# Altium integrated library Linear Technology Power Management System Supervisor, Monitor and Control.IntLib: 1611 symbols (part 60 of 100)
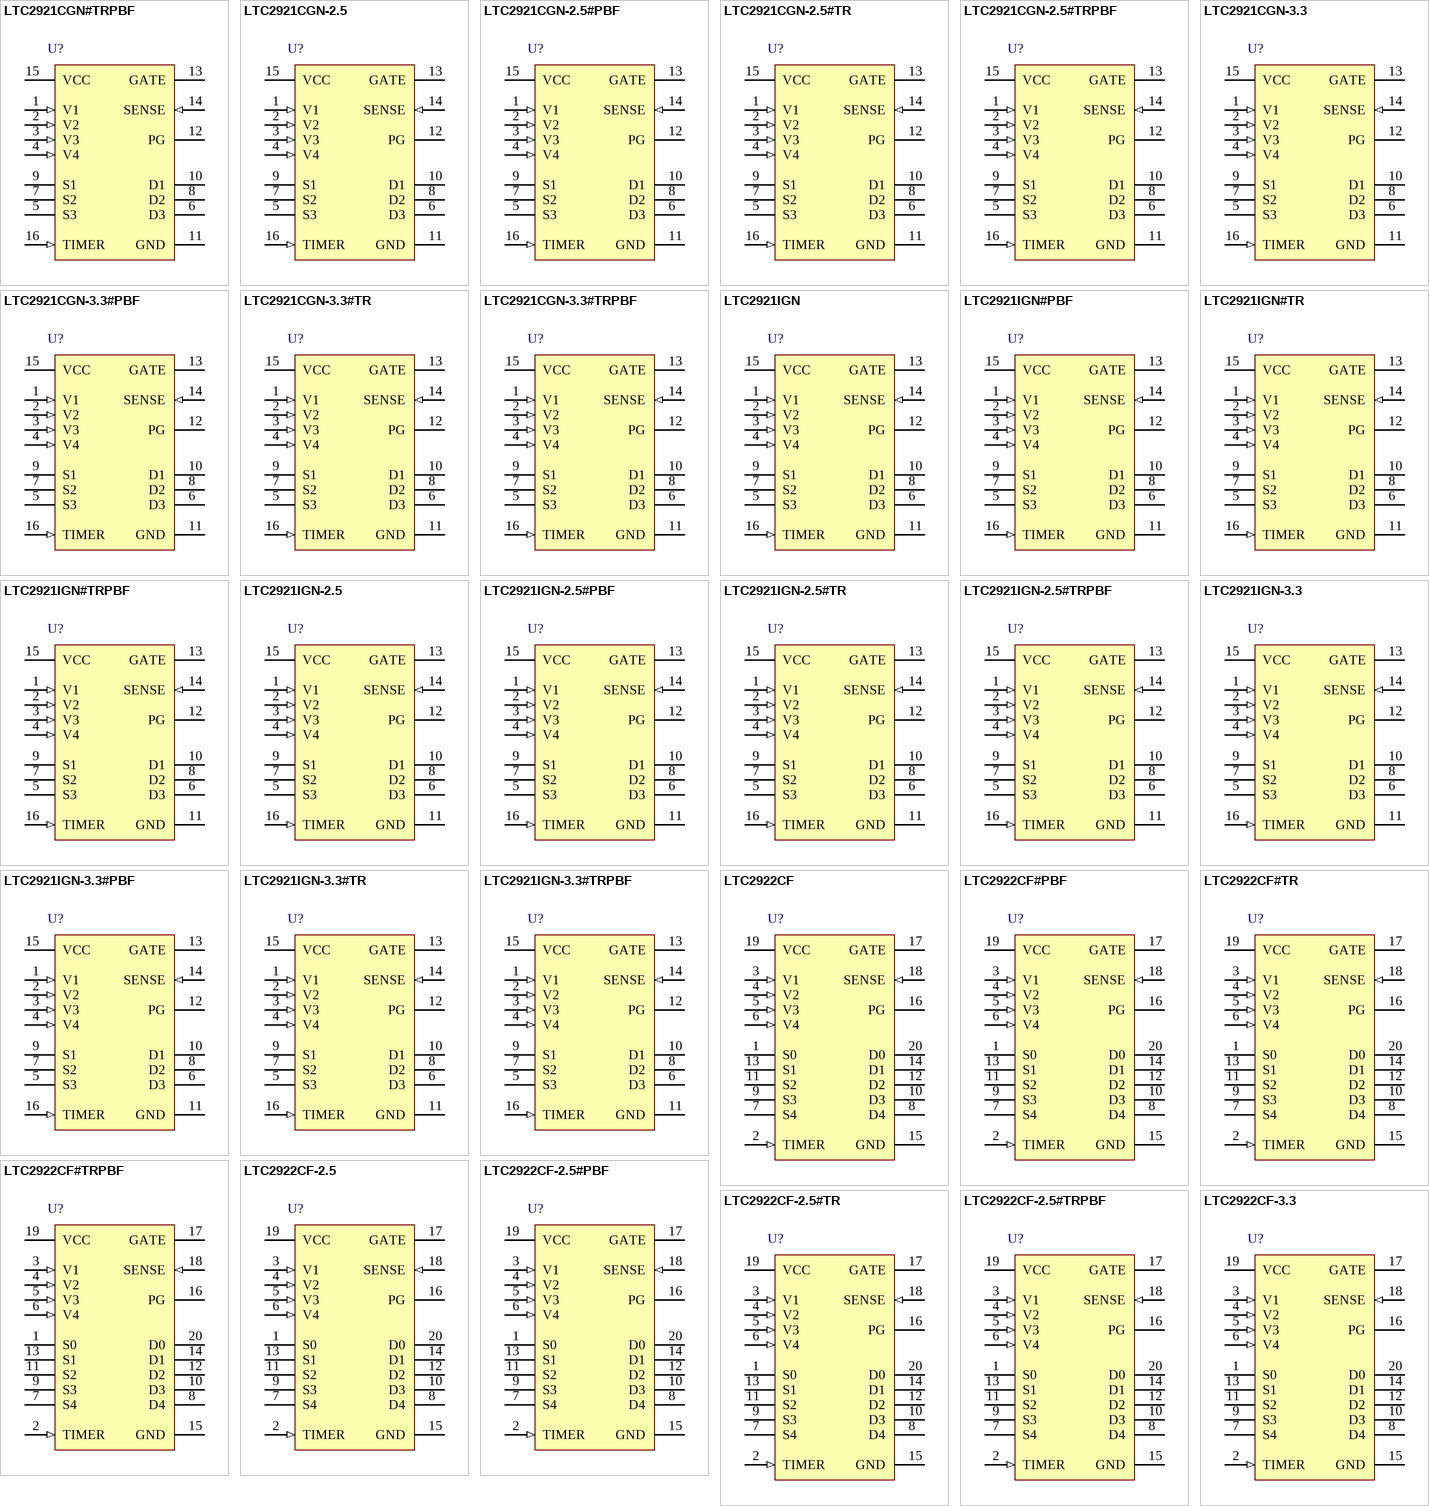
[diagram p104: symbols LTC2921CGN#TRPBF to LTC2922CF-3.3]

## LTC2922CF-2.5
designator U?
Power Supply Tracker with Input Monitor, 20-pin SOP (F-20), 0 to 70 degC; Manufacturer: Linear Technology; PartNumber: LTC2922CF-2.5; Number of Supplies(#): 5; DatasheetVersion: Rev. A; PackageVersion: Jun-10; PackageReference: F-20; PackageDescription: 20-Pin Plastic TSSOP, Body 6.5 x 4.4 mm, Pitch 0.65 mm; Supplier 1: Digi-Key; Supplier Part Number 1: LTC2922CF-2.5-ND; RoHS: FALSE; Mounting Technology: Surface Mount; ComponentLink1Description: Manufacturer URL; ComponentLink1URL: http://www.linear.com/; ComponentLink2Description: Datasheet; ComponentLink2URL: http://cds.linear.com/docs/en/datasheet/29212fa.pdf; ComponentLink3Description: Package Specification; ComponentLink3URL: http://cds.linear.com/docs/en/packaging/TSSOP_20_05-08-1650.pdf
footprint LT-F-20_N (SOP, 20-Leads, Body 6.6x4.5mm, Pitch 0.65mm, IPC Medium Density)
footprint LT-F-20_L (SOP, 20-Leads, Body 6.6x4.5mm, Pitch 0.65mm, IPC High Density)
footprint LT-F-20_M (SOP, 20-Leads, Body 6.6x4.5mm, Pitch 0.65mm, IPC Low Density)
pins: 1 S0 "Remote Switch 0. These pins are the terminals of an internal N-channel FET switch that is enabled after the GATE pin is fully ramped up. This switch can be used to connect a remote sense line to compensate for IR drop across (See Datasheet)", 2 TIMER (in) "Timing Delay Input. Connect a capacitor between this pin and ground to set a 600ms/mF delay at two points in the monitoring sequence. This sets the delay after all monitors are good, before the start of GATE ramping, and the (See Datasheet)", 3 V1 (in) "Supply Monitor Inputs. All four inputs must lie above the monitor threshold level (0.5V) and below the monitor overvoltage level (0.7V) for a turnon sequence to commence or continue. When any monitor input falls outside (See Datasheet)", 4 V2 (in) "Supply Monitor Inputs. All four inputs must lie above the monitor threshold level (0.5V) and below the monitor overvoltage level (0.7V) for a turnon sequence to commence or continue. When any monitor input falls outside (See Datasheet)", 5 V3 (in) "Supply Monitor Inputs. All four inputs must lie above the monitor threshold level (0.5V) and below the monitor overvoltage level (0.7V) for a turnon sequence to commence or continue. When any monitor input falls outside (See Datasheet)", 6 V4 (in) "Supply Monitor Inputs. All four inputs must lie above the monitor threshold level (0.5V) and below the monitor overvoltage level (0.7V) for a turnon sequence to commence or continue. When any monitor input falls outside (See Datasheet)", 7 S4 "Remote Sense Switch 4. Tie to GND if unused.", 8 D4 "Remote Sense Switch 4. Tie to GND if unused.", 9 S3 "Remote Sense Switch 3. Tie to GND if unused.", 10 D3 "Remote Sense Switch 3. Tie to GND if unused.", 11 S2 "Remote Sense Switch 2. Tie to GND if unused.", 12 D2 "Remote Sense Switch 2. Tie to GND if unused.", 13 S1 "Remote Sense Switch 1. Tie to GND if unused.", 14 D1 "Remote Sense Switch 1. Tie to GND if unused.", 15 GND (power) "Circuit Ground.", 16 PG (oc) "Power Good Output. A 4uA current source from the internal charge pump rail (VPUMP) pulls PG up after the turn-on sequence is complete. The output is pulled to ground before turn-on is complete, when any monitor is out of (See Datasheet)", 17 GATE (oc) "Gate Drive for External N-Channel FETs. A 10uA current source from the internal charge pump rail (VPUMP) ramps the gates of the external Nchannel MOSFETs forcing all supplies to track on. The resistor and capacitor network (See Datasheet)", 18 SENSE (in) "Circuit Breaker Sense Input. An external resistor between VCC and SENSE sets the electronic circuit breaker trip current. The breaker trips when the voltage across the resistor exceeds 50mV for 1us. To disable the circuit (See Datasheet)", 19 VCC (power) "Supply Voltage. The voltage at VCC is monitored through an internal resistive divider in a manner similar to the V1-V4 inputs. An undervoltage lockout circuit disables the part until the voltage at VCC is greater than 2.2V. (See Datasheet)", 20 D0 "Remote Switch 0. These pins are the terminals of an internal N-channel FET switch that is enabled after the GATE pin is fully ramped up. This switch can be used to connect a remote sense line to compensate for IR drop across (See Datasheet)"

## LTC2922CF-2.5#PBF
designator U?
Power Supply Tracker with Input Monitor, 20-pin SOP (F-20), 0 to 70 degC, Pb-Free; Manufacturer: Linear Technology; PartNumber: LTC2922CF-2.5#PBF; Number of Supplies(#): 5; DatasheetVersion: Rev. A; PackageVersion: Jun-10; PackageReference: F-20; PackageDescription: 20-Pin Plastic TSSOP, Body 6.5 x 4.4 mm, Pitch 0.65 mm; Supplier 1: Digi-Key; Supplier Part Number 1: LTC2922CF-2.5#PBF-ND; RoHS: TRUE; Mounting Technology: Surface Mount; ComponentLink1Description: Manufacturer URL; ComponentLink1URL: http://www.linear.com/; ComponentLink2Description: Datasheet; ComponentLink2URL: http://cds.linear.com/docs/en/datasheet/29212fa.pdf; ComponentLink3Description: Package Specification; ComponentLink3URL: http://cds.linear.com/docs/en/packaging/TSSOP_20_05-08-1650.pdf
footprint LT-F-20_N (SOP, 20-Leads, Body 6.6x4.5mm, Pitch 0.65mm, IPC Medium Density)
footprint LT-F-20_L (SOP, 20-Leads, Body 6.6x4.5mm, Pitch 0.65mm, IPC High Density)
footprint LT-F-20_M (SOP, 20-Leads, Body 6.6x4.5mm, Pitch 0.65mm, IPC Low Density)
pins: 1 S0 "Remote Switch 0. These pins are the terminals of an internal N-channel FET switch that is enabled after the GATE pin is fully ramped up. This switch can be used to connect a remote sense line to compensate for IR drop across (See Datasheet)", 2 TIMER (in) "Timing Delay Input. Connect a capacitor between this pin and ground to set a 600ms/mF delay at two points in the monitoring sequence. This sets the delay after all monitors are good, before the start of GATE ramping, and the (See Datasheet)", 3 V1 (in) "Supply Monitor Inputs. All four inputs must lie above the monitor threshold level (0.5V) and below the monitor overvoltage level (0.7V) for a turnon sequence to commence or continue. When any monitor input falls outside (See Datasheet)", 4 V2 (in) "Supply Monitor Inputs. All four inputs must lie above the monitor threshold level (0.5V) and below the monitor overvoltage level (0.7V) for a turnon sequence to commence or continue. When any monitor input falls outside (See Datasheet)", 5 V3 (in) "Supply Monitor Inputs. All four inputs must lie above the monitor threshold level (0.5V) and below the monitor overvoltage level (0.7V) for a turnon sequence to commence or continue. When any monitor input falls outside (See Datasheet)", 6 V4 (in) "Supply Monitor Inputs. All four inputs must lie above the monitor threshold level (0.5V) and below the monitor overvoltage level (0.7V) for a turnon sequence to commence or continue. When any monitor input falls outside (See Datasheet)", 7 S4 "Remote Sense Switch 4. Tie to GND if unused.", 8 D4 "Remote Sense Switch 4. Tie to GND if unused.", 9 S3 "Remote Sense Switch 3. Tie to GND if unused.", 10 D3 "Remote Sense Switch 3. Tie to GND if unused.", 11 S2 "Remote Sense Switch 2. Tie to GND if unused.", 12 D2 "Remote Sense Switch 2. Tie to GND if unused.", 13 S1 "Remote Sense Switch 1. Tie to GND if unused.", 14 D1 "Remote Sense Switch 1. Tie to GND if unused.", 15 GND (power) "Circuit Ground.", 16 PG (oc) "Power Good Output. A 4uA current source from the internal charge pump rail (VPUMP) pulls PG up after the turn-on sequence is complete. The output is pulled to ground before turn-on is complete, when any monitor is out of (See Datasheet)", 17 GATE (oc) "Gate Drive for External N-Channel FETs. A 10uA current source from the internal charge pump rail (VPUMP) ramps the gates of the external Nchannel MOSFETs forcing all supplies to track on. The resistor and capacitor network (See Datasheet)", 18 SENSE (in) "Circuit Breaker Sense Input. An external resistor between VCC and SENSE sets the electronic circuit breaker trip current. The breaker trips when the voltage across the resistor exceeds 50mV for 1us. To disable the circuit (See Datasheet)", 19 VCC (power) "Supply Voltage. The voltage at VCC is monitored through an internal resistive divider in a manner similar to the V1-V4 inputs. An undervoltage lockout circuit disables the part until the voltage at VCC is greater than 2.2V. (See Datasheet)", 20 D0 "Remote Switch 0. These pins are the terminals of an internal N-channel FET switch that is enabled after the GATE pin is fully ramped up. This switch can be used to connect a remote sense line to compensate for IR drop across (See Datasheet)"

## LTC2922CF-2.5#TR
designator U?
Power Supply Tracker with Input Monitor, 20-pin SOP (F-20), 0 to 70 degC, Tape and Reel; Manufacturer: Linear Technology; PartNumber: LTC2922CF-2.5#TR; Number of Supplies(#): 5; DatasheetVersion: Rev. A; PackageVersion: Jun-10; PackageReference: F-20; PackageDescription: 20-Pin Plastic TSSOP, Body 6.5 x 4.4 mm, Pitch 0.65 mm; Supplier 1: Digi-Key; Supplier Part Number 1: LTC2922CF-2.5#TR-ND; Packing: Tape and Reel; RoHS: FALSE; Mounting Technology: Surface Mount; ComponentLink1Description: Manufacturer URL; ComponentLink1URL: http://www.linear.com/; ComponentLink2Description: Datasheet; ComponentLink2URL: http://cds.linear.com/docs/en/datasheet/29212fa.pdf; ComponentLink3Description: Package Specification; ComponentLink3URL: http://cds.linear.com/docs/en/packaging/TSSOP_20_05-08-1650.pdf
footprint LT-F-20_N (SOP, 20-Leads, Body 6.6x4.5mm, Pitch 0.65mm, IPC Medium Density)
footprint LT-F-20_L (SOP, 20-Leads, Body 6.6x4.5mm, Pitch 0.65mm, IPC High Density)
footprint LT-F-20_M (SOP, 20-Leads, Body 6.6x4.5mm, Pitch 0.65mm, IPC Low Density)
pins: 1 S0 "Remote Switch 0. These pins are the terminals of an internal N-channel FET switch that is enabled after the GATE pin is fully ramped up. This switch can be used to connect a remote sense line to compensate for IR drop across (See Datasheet)", 2 TIMER (in) "Timing Delay Input. Connect a capacitor between this pin and ground to set a 600ms/mF delay at two points in the monitoring sequence. This sets the delay after all monitors are good, before the start of GATE ramping, and the (See Datasheet)", 3 V1 (in) "Supply Monitor Inputs. All four inputs must lie above the monitor threshold level (0.5V) and below the monitor overvoltage level (0.7V) for a turnon sequence to commence or continue. When any monitor input falls outside (See Datasheet)", 4 V2 (in) "Supply Monitor Inputs. All four inputs must lie above the monitor threshold level (0.5V) and below the monitor overvoltage level (0.7V) for a turnon sequence to commence or continue. When any monitor input falls outside (See Datasheet)", 5 V3 (in) "Supply Monitor Inputs. All four inputs must lie above the monitor threshold level (0.5V) and below the monitor overvoltage level (0.7V) for a turnon sequence to commence or continue. When any monitor input falls outside (See Datasheet)", 6 V4 (in) "Supply Monitor Inputs. All four inputs must lie above the monitor threshold level (0.5V) and below the monitor overvoltage level (0.7V) for a turnon sequence to commence or continue. When any monitor input falls outside (See Datasheet)", 7 S4 "Remote Sense Switch 4. Tie to GND if unused.", 8 D4 "Remote Sense Switch 4. Tie to GND if unused.", 9 S3 "Remote Sense Switch 3. Tie to GND if unused.", 10 D3 "Remote Sense Switch 3. Tie to GND if unused.", 11 S2 "Remote Sense Switch 2. Tie to GND if unused.", 12 D2 "Remote Sense Switch 2. Tie to GND if unused.", 13 S1 "Remote Sense Switch 1. Tie to GND if unused.", 14 D1 "Remote Sense Switch 1. Tie to GND if unused.", 15 GND (power) "Circuit Ground.", 16 PG (oc) "Power Good Output. A 4uA current source from the internal charge pump rail (VPUMP) pulls PG up after the turn-on sequence is complete. The output is pulled to ground before turn-on is complete, when any monitor is out of (See Datasheet)", 17 GATE (oc) "Gate Drive for External N-Channel FETs. A 10uA current source from the internal charge pump rail (VPUMP) ramps the gates of the external Nchannel MOSFETs forcing all supplies to track on. The resistor and capacitor network (See Datasheet)", 18 SENSE (in) "Circuit Breaker Sense Input. An external resistor between VCC and SENSE sets the electronic circuit breaker trip current. The breaker trips when the voltage across the resistor exceeds 50mV for 1us. To disable the circuit (See Datasheet)", 19 VCC (power) "Supply Voltage. The voltage at VCC is monitored through an internal resistive divider in a manner similar to the V1-V4 inputs. An undervoltage lockout circuit disables the part until the voltage at VCC is greater than 2.2V. (See Datasheet)", 20 D0 "Remote Switch 0. These pins are the terminals of an internal N-channel FET switch that is enabled after the GATE pin is fully ramped up. This switch can be used to connect a remote sense line to compensate for IR drop across (See Datasheet)"

## LTC2922CF-2.5#TRPBF
designator U?
Power Supply Tracker with Input Monitor, 20-pin SOP (F-20), 0 to 70 degC, Pb-Free, Tape and Reel; Manufacturer: Linear Technology; PartNumber: LTC2922CF-2.5#TRPBF; Number of Supplies(#): 5; DatasheetVersion: Rev. A; PackageVersion: Jun-10; PackageReference: F-20; PackageDescription: 20-Pin Plastic TSSOP, Body 6.5 x 4.4 mm, Pitch 0.65 mm; Supplier 1: Digi-Key; Supplier Part Number 1: LTC2922CF-2.5#TRPBF-ND; Packing: Tape and Reel; RoHS: TRUE; Mounting Technology: Surface Mount; ComponentLink1Description: Manufacturer URL; ComponentLink1URL: http://www.linear.com/; ComponentLink2Description: Datasheet; ComponentLink2URL: http://cds.linear.com/docs/en/datasheet/29212fa.pdf; ComponentLink3Description: Package Specification; ComponentLink3URL: http://cds.linear.com/docs/en/packaging/TSSOP_20_05-08-1650.pdf
footprint LT-F-20_N (SOP, 20-Leads, Body 6.6x4.5mm, Pitch 0.65mm, IPC Medium Density)
footprint LT-F-20_L (SOP, 20-Leads, Body 6.6x4.5mm, Pitch 0.65mm, IPC High Density)
footprint LT-F-20_M (SOP, 20-Leads, Body 6.6x4.5mm, Pitch 0.65mm, IPC Low Density)
pins: 1 S0 "Remote Switch 0. These pins are the terminals of an internal N-channel FET switch that is enabled after the GATE pin is fully ramped up. This switch can be used to connect a remote sense line to compensate for IR drop across (See Datasheet)", 2 TIMER (in) "Timing Delay Input. Connect a capacitor between this pin and ground to set a 600ms/mF delay at two points in the monitoring sequence. This sets the delay after all monitors are good, before the start of GATE ramping, and the (See Datasheet)", 3 V1 (in) "Supply Monitor Inputs. All four inputs must lie above the monitor threshold level (0.5V) and below the monitor overvoltage level (0.7V) for a turnon sequence to commence or continue. When any monitor input falls outside (See Datasheet)", 4 V2 (in) "Supply Monitor Inputs. All four inputs must lie above the monitor threshold level (0.5V) and below the monitor overvoltage level (0.7V) for a turnon sequence to commence or continue. When any monitor input falls outside (See Datasheet)", 5 V3 (in) "Supply Monitor Inputs. All four inputs must lie above the monitor threshold level (0.5V) and below the monitor overvoltage level (0.7V) for a turnon sequence to commence or continue. When any monitor input falls outside (See Datasheet)", 6 V4 (in) "Supply Monitor Inputs. All four inputs must lie above the monitor threshold level (0.5V) and below the monitor overvoltage level (0.7V) for a turnon sequence to commence or continue. When any monitor input falls outside (See Datasheet)", 7 S4 "Remote Sense Switch 4. Tie to GND if unused.", 8 D4 "Remote Sense Switch 4. Tie to GND if unused.", 9 S3 "Remote Sense Switch 3. Tie to GND if unused.", 10 D3 "Remote Sense Switch 3. Tie to GND if unused.", 11 S2 "Remote Sense Switch 2. Tie to GND if unused.", 12 D2 "Remote Sense Switch 2. Tie to GND if unused.", 13 S1 "Remote Sense Switch 1. Tie to GND if unused.", 14 D1 "Remote Sense Switch 1. Tie to GND if unused.", 15 GND (power) "Circuit Ground.", 16 PG (oc) "Power Good Output. A 4uA current source from the internal charge pump rail (VPUMP) pulls PG up after the turn-on sequence is complete. The output is pulled to ground before turn-on is complete, when any monitor is out of (See Datasheet)", 17 GATE (oc) "Gate Drive for External N-Channel FETs. A 10uA current source from the internal charge pump rail (VPUMP) ramps the gates of the external Nchannel MOSFETs forcing all supplies to track on. The resistor and capacitor network (See Datasheet)", 18 SENSE (in) "Circuit Breaker Sense Input. An external resistor between VCC and SENSE sets the electronic circuit breaker trip current. The breaker trips when the voltage across the resistor exceeds 50mV for 1us. To disable the circuit (See Datasheet)", 19 VCC (power) "Supply Voltage. The voltage at VCC is monitored through an internal resistive divider in a manner similar to the V1-V4 inputs. An undervoltage lockout circuit disables the part until the voltage at VCC is greater than 2.2V. (See Datasheet)", 20 D0 "Remote Switch 0. These pins are the terminals of an internal N-channel FET switch that is enabled after the GATE pin is fully ramped up. This switch can be used to connect a remote sense line to compensate for IR drop across (See Datasheet)"

## LTC2922CF-3.3
designator U?
Power Supply Tracker with Input Monitor, 20-pin SOP (F-20), 0 to 70 degC; Manufacturer: Linear Technology; PartNumber: LTC2922CF-3.3; Number of Supplies(#): 5; DatasheetVersion: Rev. A; PackageVersion: Jun-10; PackageReference: F-20; PackageDescription: 20-Pin Plastic TSSOP, Body 6.5 x 4.4 mm, Pitch 0.65 mm; Supplier 1: Digi-Key; Supplier Part Number 1: LTC2922CF-3.3-ND; RoHS: FALSE; Mounting Technology: Surface Mount; ComponentLink1Description: Manufacturer URL; ComponentLink1URL: http://www.linear.com/; ComponentLink2Description: Datasheet; ComponentLink2URL: http://cds.linear.com/docs/en/datasheet/29212fa.pdf; ComponentLink3Description: Package Specification; ComponentLink3URL: http://cds.linear.com/docs/en/packaging/TSSOP_20_05-08-1650.pdf
footprint LT-F-20_N (SOP, 20-Leads, Body 6.6x4.5mm, Pitch 0.65mm, IPC Medium Density)
footprint LT-F-20_L (SOP, 20-Leads, Body 6.6x4.5mm, Pitch 0.65mm, IPC High Density)
footprint LT-F-20_M (SOP, 20-Leads, Body 6.6x4.5mm, Pitch 0.65mm, IPC Low Density)
pins: 1 S0 "Remote Switch 0. These pins are the terminals of an internal N-channel FET switch that is enabled after the GATE pin is fully ramped up. This switch can be used to connect a remote sense line to compensate for IR drop across (See Datasheet)", 2 TIMER (in) "Timing Delay Input. Connect a capacitor between this pin and ground to set a 600ms/mF delay at two points in the monitoring sequence. This sets the delay after all monitors are good, before the start of GATE ramping, and the (See Datasheet)", 3 V1 (in) "Supply Monitor Inputs. All four inputs must lie above the monitor threshold level (0.5V) and below the monitor overvoltage level (0.7V) for a turnon sequence to commence or continue. When any monitor input falls outside (See Datasheet)", 4 V2 (in) "Supply Monitor Inputs. All four inputs must lie above the monitor threshold level (0.5V) and below the monitor overvoltage level (0.7V) for a turnon sequence to commence or continue. When any monitor input falls outside (See Datasheet)", 5 V3 (in) "Supply Monitor Inputs. All four inputs must lie above the monitor threshold level (0.5V) and below the monitor overvoltage level (0.7V) for a turnon sequence to commence or continue. When any monitor input falls outside (See Datasheet)", 6 V4 (in) "Supply Monitor Inputs. All four inputs must lie above the monitor threshold level (0.5V) and below the monitor overvoltage level (0.7V) for a turnon sequence to commence or continue. When any monitor input falls outside (See Datasheet)", 7 S4 "Remote Sense Switch 4. Tie to GND if unused.", 8 D4 "Remote Sense Switch 4. Tie to GND if unused.", 9 S3 "Remote Sense Switch 3. Tie to GND if unused.", 10 D3 "Remote Sense Switch 3. Tie to GND if unused.", 11 S2 "Remote Sense Switch 2. Tie to GND if unused.", 12 D2 "Remote Sense Switch 2. Tie to GND if unused.", 13 S1 "Remote Sense Switch 1. Tie to GND if unused.", 14 D1 "Remote Sense Switch 1. Tie to GND if unused.", 15 GND (power) "Circuit Ground.", 16 PG (oc) "Power Good Output. A 4uA current source from the internal charge pump rail (VPUMP) pulls PG up after the turn-on sequence is complete. The output is pulled to ground before turn-on is complete, when any monitor is out of (See Datasheet)", 17 GATE (oc) "Gate Drive for External N-Channel FETs. A 10uA current source from the internal charge pump rail (VPUMP) ramps the gates of the external Nchannel MOSFETs forcing all supplies to track on. The resistor and capacitor network (See Datasheet)", 18 SENSE (in) "Circuit Breaker Sense Input. An external resistor between VCC and SENSE sets the electronic circuit breaker trip current. The breaker trips when the voltage across the resistor exceeds 50mV for 1us. To disable the circuit (See Datasheet)", 19 VCC (power) "Supply Voltage. The voltage at VCC is monitored through an internal resistive divider in a manner similar to the V1-V4 inputs. An undervoltage lockout circuit disables the part until the voltage at VCC is greater than 2.2V. (See Datasheet)", 20 D0 "Remote Switch 0. These pins are the terminals of an internal N-channel FET switch that is enabled after the GATE pin is fully ramped up. This switch can be used to connect a remote sense line to compensate for IR drop across (See Datasheet)"

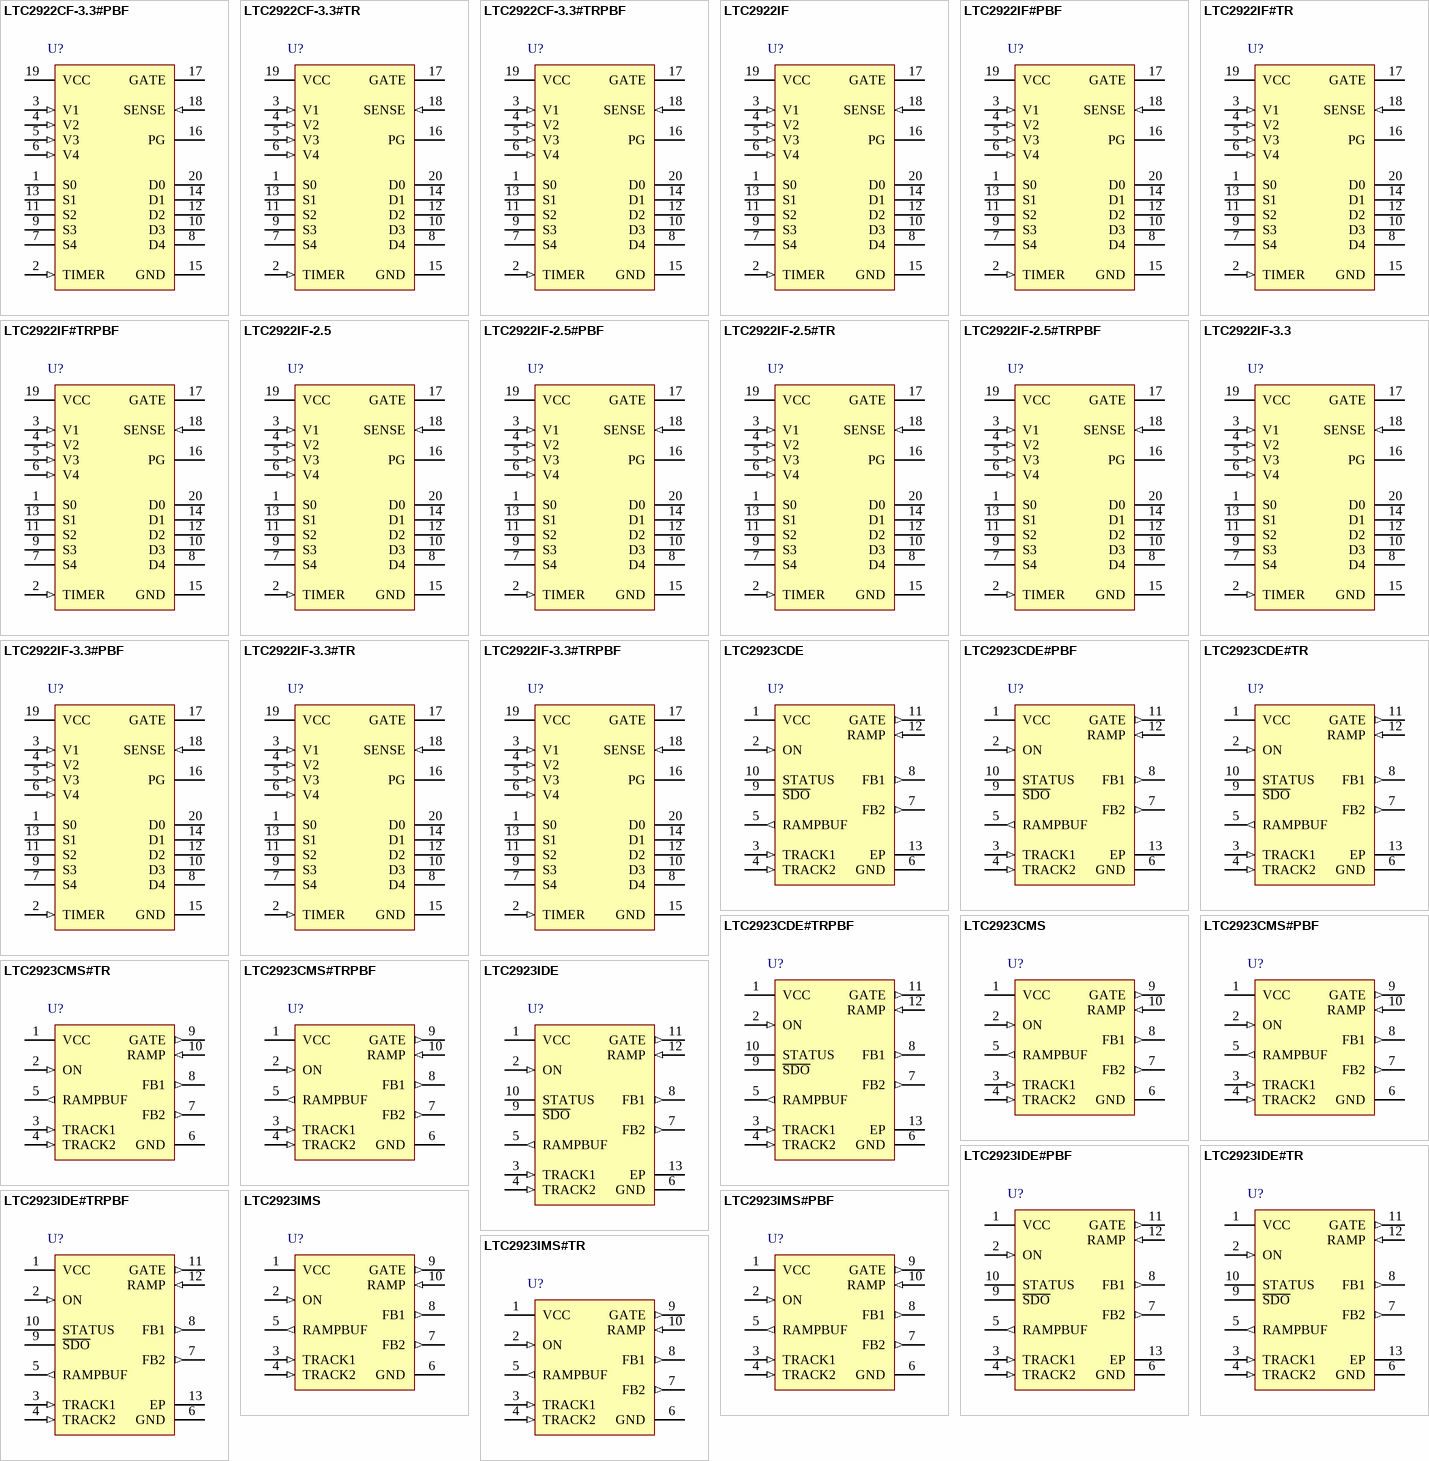
[diagram p28: symbols LTC2922CF-3.3#PBF to LTC2923IMS#TR]

## LTC2922CF-3.3#PBF
designator U?
Power Supply Tracker with Input Monitor, 20-pin SOP (F-20), 0 to 70 degC, Pb-Free; Manufacturer: Linear Technology; PartNumber: LTC2922CF-3.3#PBF; Number of Supplies(#): 5; DatasheetVersion: Rev. A; PackageVersion: Jun-10; PackageReference: F-20; PackageDescription: 20-Pin Plastic TSSOP, Body 6.5 x 4.4 mm, Pitch 0.65 mm; Supplier 1: Digi-Key; Supplier Part Number 1: LTC2922CF-3.3#PBF-ND; RoHS: TRUE; Mounting Technology: Surface Mount; ComponentLink1Description: Manufacturer URL; ComponentLink1URL: http://www.linear.com/; ComponentLink2Description: Datasheet; ComponentLink2URL: http://cds.linear.com/docs/en/datasheet/29212fa.pdf; ComponentLink3Description: Package Specification; ComponentLink3URL: http://cds.linear.com/docs/en/packaging/TSSOP_20_05-08-1650.pdf
footprint LT-F-20_N (SOP, 20-Leads, Body 6.6x4.5mm, Pitch 0.65mm, IPC Medium Density)
footprint LT-F-20_L (SOP, 20-Leads, Body 6.6x4.5mm, Pitch 0.65mm, IPC High Density)
footprint LT-F-20_M (SOP, 20-Leads, Body 6.6x4.5mm, Pitch 0.65mm, IPC Low Density)
pins: 1 S0 "Remote Switch 0. These pins are the terminals of an internal N-channel FET switch that is enabled after the GATE pin is fully ramped up. This switch can be used to connect a remote sense line to compensate for IR drop across (See Datasheet)", 2 TIMER (in) "Timing Delay Input. Connect a capacitor between this pin and ground to set a 600ms/mF delay at two points in the monitoring sequence. This sets the delay after all monitors are good, before the start of GATE ramping, and the (See Datasheet)", 3 V1 (in) "Supply Monitor Inputs. All four inputs must lie above the monitor threshold level (0.5V) and below the monitor overvoltage level (0.7V) for a turnon sequence to commence or continue. When any monitor input falls outside (See Datasheet)", 4 V2 (in) "Supply Monitor Inputs. All four inputs must lie above the monitor threshold level (0.5V) and below the monitor overvoltage level (0.7V) for a turnon sequence to commence or continue. When any monitor input falls outside (See Datasheet)", 5 V3 (in) "Supply Monitor Inputs. All four inputs must lie above the monitor threshold level (0.5V) and below the monitor overvoltage level (0.7V) for a turnon sequence to commence or continue. When any monitor input falls outside (See Datasheet)", 6 V4 (in) "Supply Monitor Inputs. All four inputs must lie above the monitor threshold level (0.5V) and below the monitor overvoltage level (0.7V) for a turnon sequence to commence or continue. When any monitor input falls outside (See Datasheet)", 7 S4 "Remote Sense Switch 4. Tie to GND if unused.", 8 D4 "Remote Sense Switch 4. Tie to GND if unused.", 9 S3 "Remote Sense Switch 3. Tie to GND if unused.", 10 D3 "Remote Sense Switch 3. Tie to GND if unused.", 11 S2 "Remote Sense Switch 2. Tie to GND if unused.", 12 D2 "Remote Sense Switch 2. Tie to GND if unused.", 13 S1 "Remote Sense Switch 1. Tie to GND if unused.", 14 D1 "Remote Sense Switch 1. Tie to GND if unused.", 15 GND (power) "Circuit Ground.", 16 PG (oc) "Power Good Output. A 4uA current source from the internal charge pump rail (VPUMP) pulls PG up after the turn-on sequence is complete. The output is pulled to ground before turn-on is complete, when any monitor is out of (See Datasheet)", 17 GATE (oc) "Gate Drive for External N-Channel FETs. A 10uA current source from the internal charge pump rail (VPUMP) ramps the gates of the external Nchannel MOSFETs forcing all supplies to track on. The resistor and capacitor network (See Datasheet)", 18 SENSE (in) "Circuit Breaker Sense Input. An external resistor between VCC and SENSE sets the electronic circuit breaker trip current. The breaker trips when the voltage across the resistor exceeds 50mV for 1us. To disable the circuit (See Datasheet)", 19 VCC (power) "Supply Voltage. The voltage at VCC is monitored through an internal resistive divider in a manner similar to the V1-V4 inputs. An undervoltage lockout circuit disables the part until the voltage at VCC is greater than 2.2V. (See Datasheet)", 20 D0 "Remote Switch 0. These pins are the terminals of an internal N-channel FET switch that is enabled after the GATE pin is fully ramped up. This switch can be used to connect a remote sense line to compensate for IR drop across (See Datasheet)"

## LTC2922CF-3.3#TR
designator U?
Power Supply Tracker with Input Monitor, 20-pin SOP (F-20), 0 to 70 degC, Tape and Reel; Manufacturer: Linear Technology; PartNumber: LTC2922CF-3.3#TR; Number of Supplies(#): 5; DatasheetVersion: Rev. A; PackageVersion: Jun-10; PackageReference: F-20; PackageDescription: 20-Pin Plastic TSSOP, Body 6.5 x 4.4 mm, Pitch 0.65 mm; Supplier 1: Digi-Key; Supplier Part Number 1: LTC2922CF-3.3#TR-ND; Packing: Tape and Reel; RoHS: FALSE; Mounting Technology: Surface Mount; ComponentLink1Description: Manufacturer URL; ComponentLink1URL: http://www.linear.com/; ComponentLink2Description: Datasheet; ComponentLink2URL: http://cds.linear.com/docs/en/datasheet/29212fa.pdf; ComponentLink3Description: Package Specification; ComponentLink3URL: http://cds.linear.com/docs/en/packaging/TSSOP_20_05-08-1650.pdf
footprint LT-F-20_N (SOP, 20-Leads, Body 6.6x4.5mm, Pitch 0.65mm, IPC Medium Density)
footprint LT-F-20_L (SOP, 20-Leads, Body 6.6x4.5mm, Pitch 0.65mm, IPC High Density)
footprint LT-F-20_M (SOP, 20-Leads, Body 6.6x4.5mm, Pitch 0.65mm, IPC Low Density)
pins: 1 S0 "Remote Switch 0. These pins are the terminals of an internal N-channel FET switch that is enabled after the GATE pin is fully ramped up. This switch can be used to connect a remote sense line to compensate for IR drop across (See Datasheet)", 2 TIMER (in) "Timing Delay Input. Connect a capacitor between this pin and ground to set a 600ms/mF delay at two points in the monitoring sequence. This sets the delay after all monitors are good, before the start of GATE ramping, and the (See Datasheet)", 3 V1 (in) "Supply Monitor Inputs. All four inputs must lie above the monitor threshold level (0.5V) and below the monitor overvoltage level (0.7V) for a turnon sequence to commence or continue. When any monitor input falls outside (See Datasheet)", 4 V2 (in) "Supply Monitor Inputs. All four inputs must lie above the monitor threshold level (0.5V) and below the monitor overvoltage level (0.7V) for a turnon sequence to commence or continue. When any monitor input falls outside (See Datasheet)", 5 V3 (in) "Supply Monitor Inputs. All four inputs must lie above the monitor threshold level (0.5V) and below the monitor overvoltage level (0.7V) for a turnon sequence to commence or continue. When any monitor input falls outside (See Datasheet)", 6 V4 (in) "Supply Monitor Inputs. All four inputs must lie above the monitor threshold level (0.5V) and below the monitor overvoltage level (0.7V) for a turnon sequence to commence or continue. When any monitor input falls outside (See Datasheet)", 7 S4 "Remote Sense Switch 4. Tie to GND if unused.", 8 D4 "Remote Sense Switch 4. Tie to GND if unused.", 9 S3 "Remote Sense Switch 3. Tie to GND if unused.", 10 D3 "Remote Sense Switch 3. Tie to GND if unused.", 11 S2 "Remote Sense Switch 2. Tie to GND if unused.", 12 D2 "Remote Sense Switch 2. Tie to GND if unused.", 13 S1 "Remote Sense Switch 1. Tie to GND if unused.", 14 D1 "Remote Sense Switch 1. Tie to GND if unused.", 15 GND (power) "Circuit Ground.", 16 PG (oc) "Power Good Output. A 4uA current source from the internal charge pump rail (VPUMP) pulls PG up after the turn-on sequence is complete. The output is pulled to ground before turn-on is complete, when any monitor is out of (See Datasheet)", 17 GATE (oc) "Gate Drive for External N-Channel FETs. A 10uA current source from the internal charge pump rail (VPUMP) ramps the gates of the external Nchannel MOSFETs forcing all supplies to track on. The resistor and capacitor network (See Datasheet)", 18 SENSE (in) "Circuit Breaker Sense Input. An external resistor between VCC and SENSE sets the electronic circuit breaker trip current. The breaker trips when the voltage across the resistor exceeds 50mV for 1us. To disable the circuit (See Datasheet)", 19 VCC (power) "Supply Voltage. The voltage at VCC is monitored through an internal resistive divider in a manner similar to the V1-V4 inputs. An undervoltage lockout circuit disables the part until the voltage at VCC is greater than 2.2V. (See Datasheet)", 20 D0 "Remote Switch 0. These pins are the terminals of an internal N-channel FET switch that is enabled after the GATE pin is fully ramped up. This switch can be used to connect a remote sense line to compensate for IR drop across (See Datasheet)"

## LTC2922CF-3.3#TRPBF
designator U?
Power Supply Tracker with Input Monitor, 20-pin SOP (F-20), 0 to 70 degC, Pb-Free, Tape and Reel; Manufacturer: Linear Technology; PartNumber: LTC2922CF-3.3#TRPBF; Number of Supplies(#): 5; DatasheetVersion: Rev. A; PackageVersion: Jun-10; PackageReference: F-20; PackageDescription: 20-Pin Plastic TSSOP, Body 6.5 x 4.4 mm, Pitch 0.65 mm; Supplier 1: Digi-Key; Supplier Part Number 1: LTC2922CF-3.3#TRPBF-ND; Packing: Tape and Reel; RoHS: TRUE; Mounting Technology: Surface Mount; ComponentLink1Description: Manufacturer URL; ComponentLink1URL: http://www.linear.com/; ComponentLink2Description: Datasheet; ComponentLink2URL: http://cds.linear.com/docs/en/datasheet/29212fa.pdf; ComponentLink3Description: Package Specification; ComponentLink3URL: http://cds.linear.com/docs/en/packaging/TSSOP_20_05-08-1650.pdf
footprint LT-F-20_N (SOP, 20-Leads, Body 6.6x4.5mm, Pitch 0.65mm, IPC Medium Density)
footprint LT-F-20_L (SOP, 20-Leads, Body 6.6x4.5mm, Pitch 0.65mm, IPC High Density)
footprint LT-F-20_M (SOP, 20-Leads, Body 6.6x4.5mm, Pitch 0.65mm, IPC Low Density)
pins: 1 S0 "Remote Switch 0. These pins are the terminals of an internal N-channel FET switch that is enabled after the GATE pin is fully ramped up. This switch can be used to connect a remote sense line to compensate for IR drop across (See Datasheet)", 2 TIMER (in) "Timing Delay Input. Connect a capacitor between this pin and ground to set a 600ms/mF delay at two points in the monitoring sequence. This sets the delay after all monitors are good, before the start of GATE ramping, and the (See Datasheet)", 3 V1 (in) "Supply Monitor Inputs. All four inputs must lie above the monitor threshold level (0.5V) and below the monitor overvoltage level (0.7V) for a turnon sequence to commence or continue. When any monitor input falls outside (See Datasheet)", 4 V2 (in) "Supply Monitor Inputs. All four inputs must lie above the monitor threshold level (0.5V) and below the monitor overvoltage level (0.7V) for a turnon sequence to commence or continue. When any monitor input falls outside (See Datasheet)", 5 V3 (in) "Supply Monitor Inputs. All four inputs must lie above the monitor threshold level (0.5V) and below the monitor overvoltage level (0.7V) for a turnon sequence to commence or continue. When any monitor input falls outside (See Datasheet)", 6 V4 (in) "Supply Monitor Inputs. All four inputs must lie above the monitor threshold level (0.5V) and below the monitor overvoltage level (0.7V) for a turnon sequence to commence or continue. When any monitor input falls outside (See Datasheet)", 7 S4 "Remote Sense Switch 4. Tie to GND if unused.", 8 D4 "Remote Sense Switch 4. Tie to GND if unused.", 9 S3 "Remote Sense Switch 3. Tie to GND if unused.", 10 D3 "Remote Sense Switch 3. Tie to GND if unused.", 11 S2 "Remote Sense Switch 2. Tie to GND if unused.", 12 D2 "Remote Sense Switch 2. Tie to GND if unused.", 13 S1 "Remote Sense Switch 1. Tie to GND if unused.", 14 D1 "Remote Sense Switch 1. Tie to GND if unused.", 15 GND (power) "Circuit Ground.", 16 PG (oc) "Power Good Output. A 4uA current source from the internal charge pump rail (VPUMP) pulls PG up after the turn-on sequence is complete. The output is pulled to ground before turn-on is complete, when any monitor is out of (See Datasheet)", 17 GATE (oc) "Gate Drive for External N-Channel FETs. A 10uA current source from the internal charge pump rail (VPUMP) ramps the gates of the external Nchannel MOSFETs forcing all supplies to track on. The resistor and capacitor network (See Datasheet)", 18 SENSE (in) "Circuit Breaker Sense Input. An external resistor between VCC and SENSE sets the electronic circuit breaker trip current. The breaker trips when the voltage across the resistor exceeds 50mV for 1us. To disable the circuit (See Datasheet)", 19 VCC (power) "Supply Voltage. The voltage at VCC is monitored through an internal resistive divider in a manner similar to the V1-V4 inputs. An undervoltage lockout circuit disables the part until the voltage at VCC is greater than 2.2V. (See Datasheet)", 20 D0 "Remote Switch 0. These pins are the terminals of an internal N-channel FET switch that is enabled after the GATE pin is fully ramped up. This switch can be used to connect a remote sense line to compensate for IR drop across (See Datasheet)"

## LTC2922IF
designator U?
Power Supply Tracker with Input Monitor, 20-pin SOP (F-20), -40 to 85 degC; Manufacturer: Linear Technology; PartNumber: LTC2922IF; Number of Supplies(#): 5; DatasheetVersion: Rev. A; PackageVersion: Jun-10; PackageReference: F-20; PackageDescription: 20-Pin Plastic TSSOP, Body 6.5 x 4.4 mm, Pitch 0.65 mm; Supplier 1: Digi-Key; Supplier Part Number 1: LTC2922IF-ND; RoHS: FALSE; Mounting Technology: Surface Mount; ComponentLink1Description: Manufacturer URL; ComponentLink1URL: http://www.linear.com/; ComponentLink2Description: Datasheet; ComponentLink2URL: http://cds.linear.com/docs/en/datasheet/29212fa.pdf; ComponentLink3Description: Package Specification; ComponentLink3URL: http://cds.linear.com/docs/en/packaging/TSSOP_20_05-08-1650.pdf
footprint LT-F-20_N (SOP, 20-Leads, Body 6.6x4.5mm, Pitch 0.65mm, IPC Medium Density)
footprint LT-F-20_L (SOP, 20-Leads, Body 6.6x4.5mm, Pitch 0.65mm, IPC High Density)
footprint LT-F-20_M (SOP, 20-Leads, Body 6.6x4.5mm, Pitch 0.65mm, IPC Low Density)
pins: 1 S0 "Remote Switch 0. These pins are the terminals of an internal N-channel FET switch that is enabled after the GATE pin is fully ramped up. This switch can be used to connect a remote sense line to compensate for IR drop across (See Datasheet)", 2 TIMER (in) "Timing Delay Input. Connect a capacitor between this pin and ground to set a 600ms/mF delay at two points in the monitoring sequence. This sets the delay after all monitors are good, before the start of GATE ramping, and the (See Datasheet)", 3 V1 (in) "Supply Monitor Inputs. All four inputs must lie above the monitor threshold level (0.5V) and below the monitor overvoltage level (0.7V) for a turnon sequence to commence or continue. When any monitor input falls outside (See Datasheet)", 4 V2 (in) "Supply Monitor Inputs. All four inputs must lie above the monitor threshold level (0.5V) and below the monitor overvoltage level (0.7V) for a turnon sequence to commence or continue. When any monitor input falls outside (See Datasheet)", 5 V3 (in) "Supply Monitor Inputs. All four inputs must lie above the monitor threshold level (0.5V) and below the monitor overvoltage level (0.7V) for a turnon sequence to commence or continue. When any monitor input falls outside (See Datasheet)", 6 V4 (in) "Supply Monitor Inputs. All four inputs must lie above the monitor threshold level (0.5V) and below the monitor overvoltage level (0.7V) for a turnon sequence to commence or continue. When any monitor input falls outside (See Datasheet)", 7 S4 "Remote Sense Switch 4. Tie to GND if unused.", 8 D4 "Remote Sense Switch 4. Tie to GND if unused.", 9 S3 "Remote Sense Switch 3. Tie to GND if unused.", 10 D3 "Remote Sense Switch 3. Tie to GND if unused.", 11 S2 "Remote Sense Switch 2. Tie to GND if unused.", 12 D2 "Remote Sense Switch 2. Tie to GND if unused.", 13 S1 "Remote Sense Switch 1. Tie to GND if unused.", 14 D1 "Remote Sense Switch 1. Tie to GND if unused.", 15 GND (power) "Circuit Ground.", 16 PG (oc) "Power Good Output. A 4uA current source from the internal charge pump rail (VPUMP) pulls PG up after the turn-on sequence is complete. The output is pulled to ground before turn-on is complete, when any monitor is out of (See Datasheet)", 17 GATE (oc) "Gate Drive for External N-Channel FETs. A 10uA current source from the internal charge pump rail (VPUMP) ramps the gates of the external Nchannel MOSFETs forcing all supplies to track on. The resistor and capacitor network (See Datasheet)", 18 SENSE (in) "Circuit Breaker Sense Input. An external resistor between VCC and SENSE sets the electronic circuit breaker trip current. The breaker trips when the voltage across the resistor exceeds 50mV for 1us. To disable the circuit (See Datasheet)", 19 VCC (power) "Supply Voltage. The voltage at VCC is monitored through an internal resistive divider in a manner similar to the V1-V4 inputs. An undervoltage lockout circuit disables the part until the voltage at VCC is greater than 2.2V. (See Datasheet)", 20 D0 "Remote Switch 0. These pins are the terminals of an internal N-channel FET switch that is enabled after the GATE pin is fully ramped up. This switch can be used to connect a remote sense line to compensate for IR drop across (See Datasheet)"

## LTC2922IF#PBF
designator U?
Power Supply Tracker with Input Monitor, 20-pin SOP (F-20), -40 to 85 degC, Pb-Free; Manufacturer: Linear Technology; PartNumber: LTC2922IF#PBF; Number of Supplies(#): 5; DatasheetVersion: Rev. A; PackageVersion: Jun-10; PackageReference: F-20; PackageDescription: 20-Pin Plastic TSSOP, Body 6.5 x 4.4 mm, Pitch 0.65 mm; Supplier 1: Digi-Key; Supplier Part Number 1: LTC2922IF#PBF-ND; RoHS: TRUE; Mounting Technology: Surface Mount; ComponentLink1Description: Manufacturer URL; ComponentLink1URL: http://www.linear.com/; ComponentLink2Description: Datasheet; ComponentLink2URL: http://cds.linear.com/docs/en/datasheet/29212fa.pdf; ComponentLink3Description: Package Specification; ComponentLink3URL: http://cds.linear.com/docs/en/packaging/TSSOP_20_05-08-1650.pdf
footprint LT-F-20_N (SOP, 20-Leads, Body 6.6x4.5mm, Pitch 0.65mm, IPC Medium Density)
footprint LT-F-20_L (SOP, 20-Leads, Body 6.6x4.5mm, Pitch 0.65mm, IPC High Density)
footprint LT-F-20_M (SOP, 20-Leads, Body 6.6x4.5mm, Pitch 0.65mm, IPC Low Density)
pins: 1 S0 "Remote Switch 0. These pins are the terminals of an internal N-channel FET switch that is enabled after the GATE pin is fully ramped up. This switch can be used to connect a remote sense line to compensate for IR drop across (See Datasheet)", 2 TIMER (in) "Timing Delay Input. Connect a capacitor between this pin and ground to set a 600ms/mF delay at two points in the monitoring sequence. This sets the delay after all monitors are good, before the start of GATE ramping, and the (See Datasheet)", 3 V1 (in) "Supply Monitor Inputs. All four inputs must lie above the monitor threshold level (0.5V) and below the monitor overvoltage level (0.7V) for a turnon sequence to commence or continue. When any monitor input falls outside (See Datasheet)", 4 V2 (in) "Supply Monitor Inputs. All four inputs must lie above the monitor threshold level (0.5V) and below the monitor overvoltage level (0.7V) for a turnon sequence to commence or continue. When any monitor input falls outside (See Datasheet)", 5 V3 (in) "Supply Monitor Inputs. All four inputs must lie above the monitor threshold level (0.5V) and below the monitor overvoltage level (0.7V) for a turnon sequence to commence or continue. When any monitor input falls outside (See Datasheet)", 6 V4 (in) "Supply Monitor Inputs. All four inputs must lie above the monitor threshold level (0.5V) and below the monitor overvoltage level (0.7V) for a turnon sequence to commence or continue. When any monitor input falls outside (See Datasheet)", 7 S4 "Remote Sense Switch 4. Tie to GND if unused.", 8 D4 "Remote Sense Switch 4. Tie to GND if unused.", 9 S3 "Remote Sense Switch 3. Tie to GND if unused.", 10 D3 "Remote Sense Switch 3. Tie to GND if unused.", 11 S2 "Remote Sense Switch 2. Tie to GND if unused.", 12 D2 "Remote Sense Switch 2. Tie to GND if unused.", 13 S1 "Remote Sense Switch 1. Tie to GND if unused.", 14 D1 "Remote Sense Switch 1. Tie to GND if unused.", 15 GND (power) "Circuit Ground.", 16 PG (oc) "Power Good Output. A 4uA current source from the internal charge pump rail (VPUMP) pulls PG up after the turn-on sequence is complete. The output is pulled to ground before turn-on is complete, when any monitor is out of (See Datasheet)", 17 GATE (oc) "Gate Drive for External N-Channel FETs. A 10uA current source from the internal charge pump rail (VPUMP) ramps the gates of the external Nchannel MOSFETs forcing all supplies to track on. The resistor and capacitor network (See Datasheet)", 18 SENSE (in) "Circuit Breaker Sense Input. An external resistor between VCC and SENSE sets the electronic circuit breaker trip current. The breaker trips when the voltage across the resistor exceeds 50mV for 1us. To disable the circuit (See Datasheet)", 19 VCC (power) "Supply Voltage. The voltage at VCC is monitored through an internal resistive divider in a manner similar to the V1-V4 inputs. An undervoltage lockout circuit disables the part until the voltage at VCC is greater than 2.2V. (See Datasheet)", 20 D0 "Remote Switch 0. These pins are the terminals of an internal N-channel FET switch that is enabled after the GATE pin is fully ramped up. This switch can be used to connect a remote sense line to compensate for IR drop across (See Datasheet)"

## LTC2922IF#TR
designator U?
Power Supply Tracker with Input Monitor, 20-pin SOP (F-20), -40 to 85 degC, Tape and Reel; Manufacturer: Linear Technology; PartNumber: LTC2922IF#TR; Number of Supplies(#): 5; DatasheetVersion: Rev. A; PackageVersion: Jun-10; PackageReference: F-20; PackageDescription: 20-Pin Plastic TSSOP, Body 6.5 x 4.4 mm, Pitch 0.65 mm; Supplier 1: Digi-Key; Supplier Part Number 1: LTC2922IF#TR-ND; Packing: Tape and Reel; RoHS: FALSE; Mounting Technology: Surface Mount; ComponentLink1Description: Manufacturer URL; ComponentLink1URL: http://www.linear.com/; ComponentLink2Description: Datasheet; ComponentLink2URL: http://cds.linear.com/docs/en/datasheet/29212fa.pdf; ComponentLink3Description: Package Specification; ComponentLink3URL: http://cds.linear.com/docs/en/packaging/TSSOP_20_05-08-1650.pdf
footprint LT-F-20_N (SOP, 20-Leads, Body 6.6x4.5mm, Pitch 0.65mm, IPC Medium Density)
footprint LT-F-20_L (SOP, 20-Leads, Body 6.6x4.5mm, Pitch 0.65mm, IPC High Density)
footprint LT-F-20_M (SOP, 20-Leads, Body 6.6x4.5mm, Pitch 0.65mm, IPC Low Density)
pins: 1 S0 "Remote Switch 0. These pins are the terminals of an internal N-channel FET switch that is enabled after the GATE pin is fully ramped up. This switch can be used to connect a remote sense line to compensate for IR drop across (See Datasheet)", 2 TIMER (in) "Timing Delay Input. Connect a capacitor between this pin and ground to set a 600ms/mF delay at two points in the monitoring sequence. This sets the delay after all monitors are good, before the start of GATE ramping, and the (See Datasheet)", 3 V1 (in) "Supply Monitor Inputs. All four inputs must lie above the monitor threshold level (0.5V) and below the monitor overvoltage level (0.7V) for a turnon sequence to commence or continue. When any monitor input falls outside (See Datasheet)", 4 V2 (in) "Supply Monitor Inputs. All four inputs must lie above the monitor threshold level (0.5V) and below the monitor overvoltage level (0.7V) for a turnon sequence to commence or continue. When any monitor input falls outside (See Datasheet)", 5 V3 (in) "Supply Monitor Inputs. All four inputs must lie above the monitor threshold level (0.5V) and below the monitor overvoltage level (0.7V) for a turnon sequence to commence or continue. When any monitor input falls outside (See Datasheet)", 6 V4 (in) "Supply Monitor Inputs. All four inputs must lie above the monitor threshold level (0.5V) and below the monitor overvoltage level (0.7V) for a turnon sequence to commence or continue. When any monitor input falls outside (See Datasheet)", 7 S4 "Remote Sense Switch 4. Tie to GND if unused.", 8 D4 "Remote Sense Switch 4. Tie to GND if unused.", 9 S3 "Remote Sense Switch 3. Tie to GND if unused.", 10 D3 "Remote Sense Switch 3. Tie to GND if unused.", 11 S2 "Remote Sense Switch 2. Tie to GND if unused.", 12 D2 "Remote Sense Switch 2. Tie to GND if unused.", 13 S1 "Remote Sense Switch 1. Tie to GND if unused.", 14 D1 "Remote Sense Switch 1. Tie to GND if unused.", 15 GND (power) "Circuit Ground.", 16 PG (oc) "Power Good Output. A 4uA current source from the internal charge pump rail (VPUMP) pulls PG up after the turn-on sequence is complete. The output is pulled to ground before turn-on is complete, when any monitor is out of (See Datasheet)", 17 GATE (oc) "Gate Drive for External N-Channel FETs. A 10uA current source from the internal charge pump rail (VPUMP) ramps the gates of the external Nchannel MOSFETs forcing all supplies to track on. The resistor and capacitor network (See Datasheet)", 18 SENSE (in) "Circuit Breaker Sense Input. An external resistor between VCC and SENSE sets the electronic circuit breaker trip current. The breaker trips when the voltage across the resistor exceeds 50mV for 1us. To disable the circuit (See Datasheet)", 19 VCC (power) "Supply Voltage. The voltage at VCC is monitored through an internal resistive divider in a manner similar to the V1-V4 inputs. An undervoltage lockout circuit disables the part until the voltage at VCC is greater than 2.2V. (See Datasheet)", 20 D0 "Remote Switch 0. These pins are the terminals of an internal N-channel FET switch that is enabled after the GATE pin is fully ramped up. This switch can be used to connect a remote sense line to compensate for IR drop across (See Datasheet)"